# EAGLE library part LTC1771 (library PCB_KioskMB_r3.3-05)
Hi efficiency DCDC step down
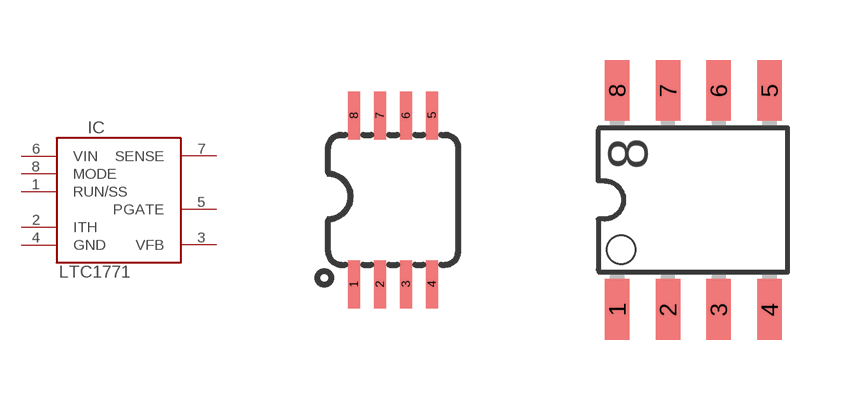
[diagram p13: symbol with the pads of MSOP-08; footprints MSOP-08, SO-08]

Designator prefix IC

## LTC1771EMS8  [MSOP-08]
1  RUN/SS  in
2  ITH  in
3  VFB  in
4  GND  pwr
5  PGATE  out
6  VIN  pwr
7  SENSE  in
8  MODE  in

## LTC1771IS8  [SO-08]
Pads as for MSOP-08

## Footprint MSOP-08 (pad centres in mm)
Miini SOP 8 package, ADI RM-8, IRF: Micro8 MS8 Package 8-Lead Plastic MSOP (LTC DWG # 05-08-1660)
smd 0.3 x 1.2: 1 -1.008,-2.18; 2 -0.358,-2.18; 3 0.292,-2.18; 4 0.942,-2.18; 5 0.942,2.045; 6 0.292,2.045; 7 -0.358,2.045; 8 -1.008,2.045

## Footprint SO-08 (pad centres in mm)
smd 0.61 x 1.524: 1 -1.905,-2.743; 2 -0.635,-2.743; 3 0.635,-2.743; 4 1.905,-2.743; 5 1.905,2.743; 6 0.635,2.743; 7 -0.635,2.743; 8 -1.905,2.743